# EAGLE library part FH19C-10S-0.5SH_10_ (library FH19C-10S-0.5SH_10_)
HIROSE(HRS) - FH19C-10S-0.5SH(10) - CONN, FPC, RCPT, R/A, 10POS, 0.5MM, SMT Source: Datasheet <https://componentsearchengine.com/Datasheets/1/FH19C-10S-0.5SH(10).pdf>
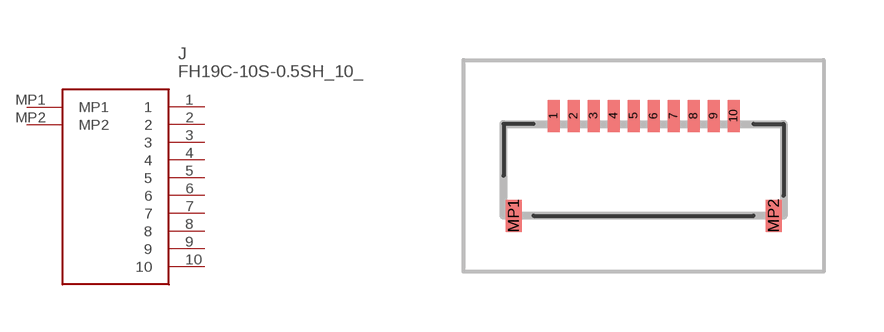
[diagram p0: symbol with the pads of FH19C10S05SH10; footprint FH19C10S05SH10]

Designator prefix J

## FH19C-10S-0.5SH_10_ (Description: HIROSE(HRS) - FH19C-10S-0.5SH(10) - CONN, FPC, RCPT, R/A, 10POS, 0.5MM, SMT; Height: 1mm; Manufacturer_Name: Hirose; Manufacturer_Part_Number: FH19C-10S-0.5SH(10); Mouser_Part_Number: 798-FH19C10S05SH10; Mouser_Price-Stock: https://www.mouser.com/Search/Refine.aspx?Keyword=798-FH19C10S05SH10)  [FH19C10S05SH10]
1  1
2  2
3  3
4  4
5  5
6  6
7  7
8  8
9  9
10  10
MP1  MP1
MP2  MP2

## Footprint FH19C10S05SH10 (pad centres in mm)
FH19C-10S-0.5SH(10)-1
smd 0.3 x 0.8: 1 -2.25,1.25; 2 -1.75,1.25; 3 -1.25,1.25; 4 -0.75,1.25; 5 -0.25,1.25; 6 0.25,1.25; 7 0.75,1.25; 8 1.25,1.25; 9 1.75,1.25; 10 2.25,1.25
smd 0.4 x 0.8: MP1 -3.25,-1.25; MP2 3.25,-1.25